# Altium footprint library Resistor.PcbLib: 56 footprints (part 2 of 4)
Each footprint in its own frame and in the unit in brackets; x right, y up, seen from the top. Pads: shape width x height; smd on the part's side, far side on the other; paste and mask are expansions set on the pad; w line width, h text height; cw(c..) or ccw(c..) is an arc to the next point about the centre after c.
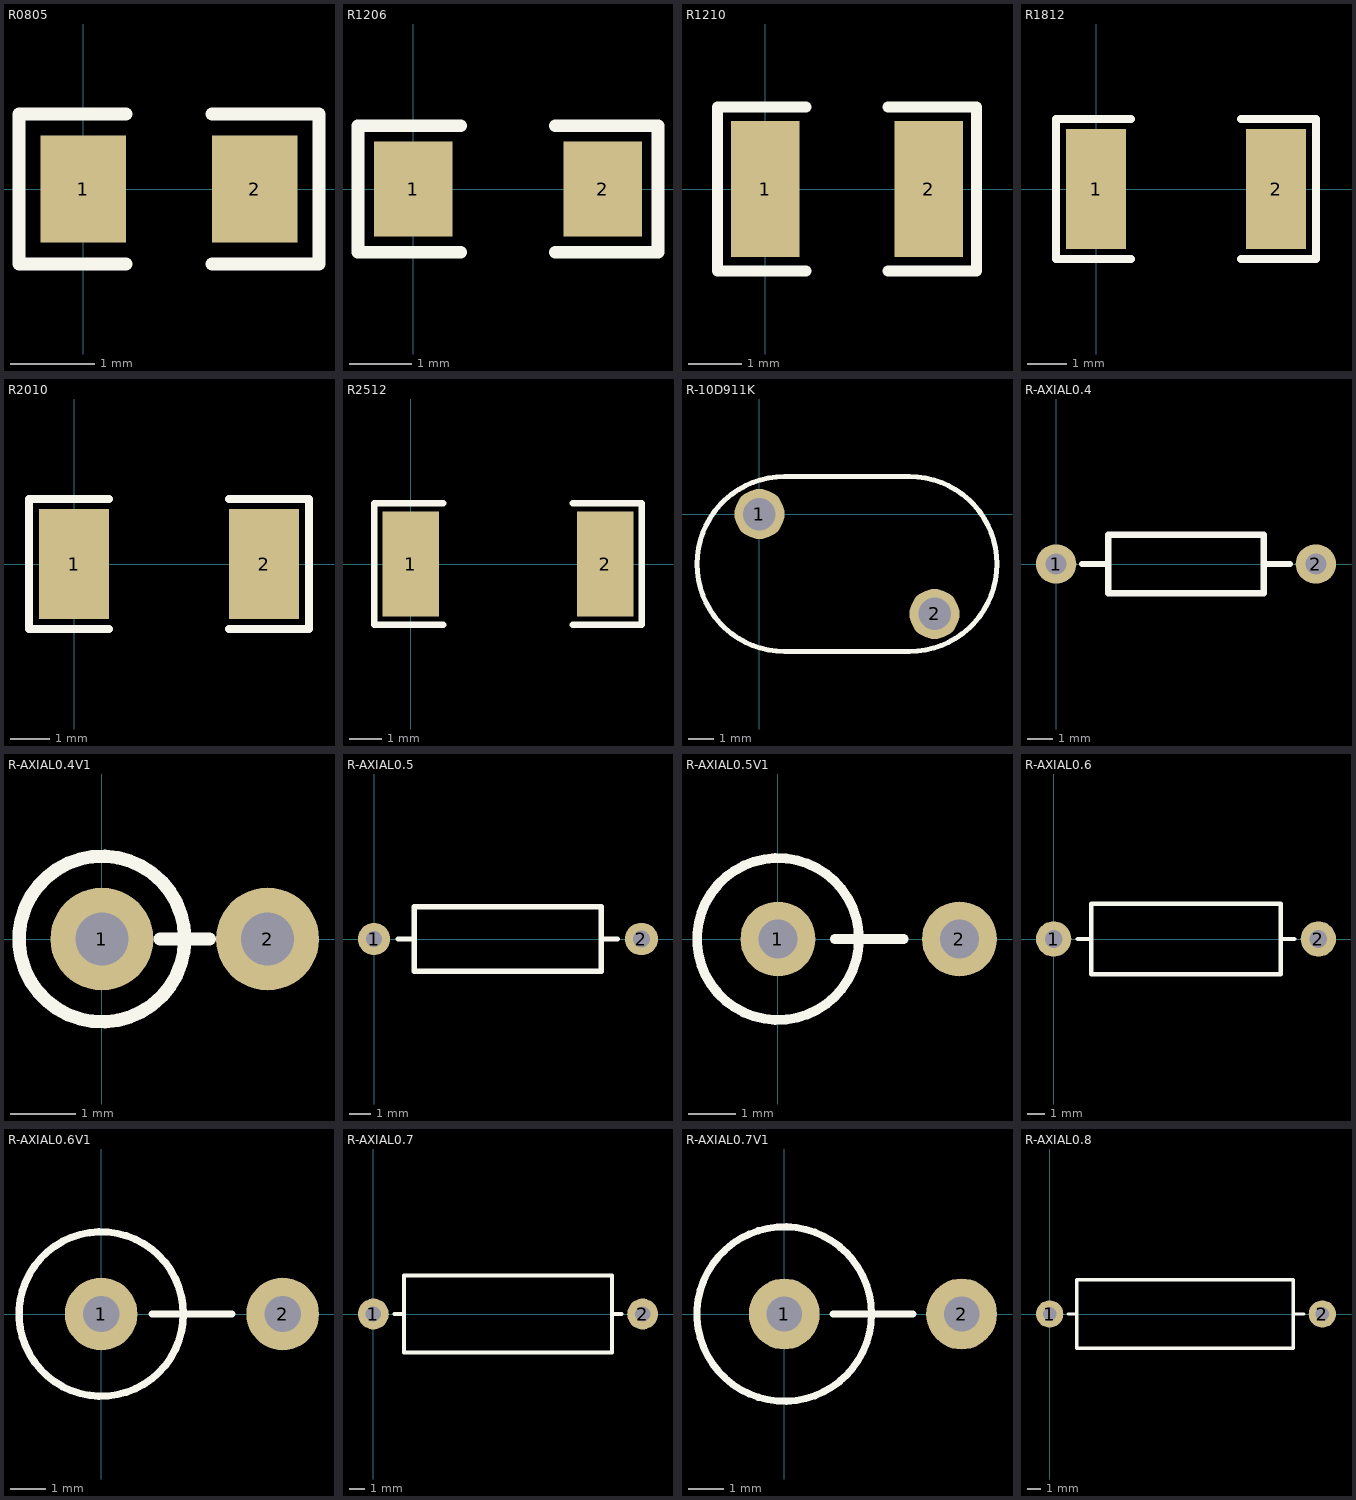
[diagram p1: the footprints below, top view; thin cyan lines are the x and y axes]

## R0805 [mil]
height 15
pads (2):
  rect 40x50 smd: 1(0,0) 2(80,0)
Top Overlay:
  lines w6: 20,-35 -30,-35 -30,35 20,35 ; 60,-35 110,-35 110,35 60,35
3D body "R0805.STEP": height 21.65, standoff 0, extent 0.63,-25 79.37,24.61

## R1206 [mil]
height 20
pads (2):
  rect 50x60 smd: 1(0,0) 2(120,0)
Top Overlay:
  lines w8: 30,-40 -35,-40 -35,40 30,40 ; 90,-40 155,-40 155,40 90,40
3D body "R1206.STEP": height 23.62, standoff 0, extent -3.99,-31 121.99,31.99

## R1210 [mil]
height 20
pads (2):
  rect 50x100 smd: 1(0,0) 2(120,0)
Top Overlay:
  lines w8: 30,-60 -35,-60 -35,60 30,60 ; 90,-60 155,-60 155,60 90,60
3D body "R1210.STEP": height 21.65, standoff 0, extent -2.99,-48.43 122.99,50

## R1812 [mil]
height 20
pads (2):
  rect 60x120 smd: 1(0,0) 2(180,0)
Top Overlay:
  lines w8: 35,-70 -40,-70 -40,70 35,70 ; 145,-70 220,-70 220,70 145,70
3D body "R1812.STEP": height 63.07, standoff 0, extent 0,-61.99 177.17,63.99

## R2010 [mil]
height 25
pads (2):
  rect 70x110 smd: 1(0,0) 2(190,0)
Top Overlay:
  lines w8: 35,-65 -45,-65 -45,65 35,65 ; 155,-65 235,-65 235,65 155,65
3D body "R2010.STEP": height 24.44, standoff 0, extent -23.11,-53 213.11,53.3

## R2512 [mil]
height 25
pads (2):
  rect 70x130 smd: 1(0,0) 2(240,0)
Top Overlay:
  lines w8: 40,-75 -45,-75 -45,75 40,75 ; 200,-75 285,-75 285,75 200,75
3D body "R2512.STEP": height 25.23, standoff 0, extent -15,-65 252.72,64.92

## R-10D911K [mm]
pads (2):
  round 2 hole 1.3: 1(0,0) 2(7,-4)
Top Overlay:
  lines w0.2: 1,-5.5 cw(c1,-2) 1,1.5 6,1.5 cw(c6,-2) 6,-5.5 1,-5.5
3D body: height 15, standoff 3, extent -2.499,-5.499 9.499,1.499

## R-AXIAL0.4 [mil]
pads (2):
  oval 62x60 hole 32: 1(0,0) 2(400,0)
Top Overlay:
  lines w10: 40,0 80,0 ; 320,0 360,0 ; 80,-45 320,-45 320,45 80,45 80,-45
3D body "R-0.25W  0.4IN.STEP": height 115.5, standoff -100, extent -12,-46 412,45

## R-AXIAL0.4V1 [mil]
pads (2):
  round 62 hole 32: 1(0,0) 2(100,0)
Top Overlay:
  circle w8: c0,0 r50
  lines w8: 35,0 65,0
3D body "R-AXIAL0.4V1.STEP": height 287.32, standoff -57.17, extent -35,-36.24 111.15,36.24

## R-AXIAL0.5 [mil]
pads (2):
  round 60 hole 30: 1(0,0)
  oval 62x60 hole 32: 2(500,0)
Top Overlay:
  lines w10: 45,0 75,0 ; 425,0 455,0 ; 75,-60 75,60 425,60 425,-60 75,-60
3D body "AXIAL0.5-0.5W.STEP": height 178.13, standoff 0, extent -5,-53.13 505,53.13

## R-AXIAL0.5V1 [mil]
pads (2):
  round 62 hole 32: 1(0,0) 2(150,0)
Top Overlay:
  circle w8: c0,0 r66.93
  lines w8: 47,0 104,0
3D body: height 472.35, standoff 448.82, extent -11.81,-11.58 161.81,12
3D body: height 460.63, standoff 0, extent 138.47,-11.79 162,11.79
3D body: height 460.63, standoff 354.33, extent -11.53,-11.79 12,11.79
3D body: height 354.33, standoff 0, extent -60.64,-61 57,56.88

## R-AXIAL0.6 [mil]
pads (2):
  round 80 hole 40: 1(0,0) 2(600,0)
Top Overlay:
  lines w10: 55,0 85,0 ; 515,0 545,0 ; 85,-80 515,-80 515,80 85,80 85,-80
3D body "AXIAL0.6-1W.STEP": height 204.8, standoff 0, extent -5,-55 605,54.6

## R-AXIAL0.6V1 [mil]
pads (2):
  round 80 hole 40: 1(0,0) 2(200,0)
Top Overlay:
  circle w8: c0,0 r90.55
  lines w8: 56,0 144,0
3D body: height 433.07, standoff 0, extent -78.86,-79.58 78,77.58
3D body: height 539.37, standoff 433.07, extent -15.37,-15.72 16,15.72
3D body: height 539.37, standoff 0, extent 184.63,-15.72 216,15.72
3D body: height 554.99, standoff 523.62, extent -14.96,-15.43 215.75,16

## R-AXIAL0.7 [mil]
pads (2):
  round 80 hole 40: 1(0,0) 2(700,0)
Top Overlay:
  lines w10: 55,0 80,0 ; 620,0 645,0 ; 80,-100 620,-100 620,100 80,100 80,-100
3D body "AXIAL0.7.STEP": height 259.95, standoff 0, extent -5,-85 705,84.9

## R-AXIAL0.7V1 [mil]
pads (2):
  round 80 hole 40: 1(0,0) 2(200,0)
Top Overlay:
  circle w8: c0,0 r98.43
  lines w8: 55,0 145,0
3D body: height 511.81, standoff 0, extent -85.55,-87.44 87,85.44
3D body: height 618.11, standoff 511.81, extent -16.37,-15.72 15,15.72
3D body: height 618.11, standoff 0, extent 183.63,-15.72 215,15.72
3D body: height 633.73, standoff 602.36, extent -15.96,-15.43 214.75,16

## R-AXIAL0.8 [mil]
pads (2):
  round 80 hole 40: 1(0,0) 2(800,0)
Top Overlay:
  lines w10: 55,0 80,0 ; 715,0 745,0 ; 80,-100 80,100 715,100 715,-100 80,-100
3D body: height 78.74, standoff 0, extent 780.48,-19.64 819.69,19.65
3D body: height 78.74, standoff 0, extent -19.52,-19.64 19.69,19.65
3D body: height 98.27, standoff 59.06, extent 653.32,-19.29 819.47,20
3D body: height 98.27, standoff 59.06, extent -19.42,-19.65 142,19.64
3D body: height 156.86, standoff 0, extent 142,-78.58 653.81,78.59